# Altium footprint library resistors.PcbLib: 16 footprints
Each footprint in its own frame and in the unit in brackets; x right, y up, seen from the top. Pads: shape width x height; smd on the part's side, far side on the other; paste and mask are expansions set on the pad; w line width, h text height; cw(c..) or ccw(c..) is an arc to the next point about the centre after c.
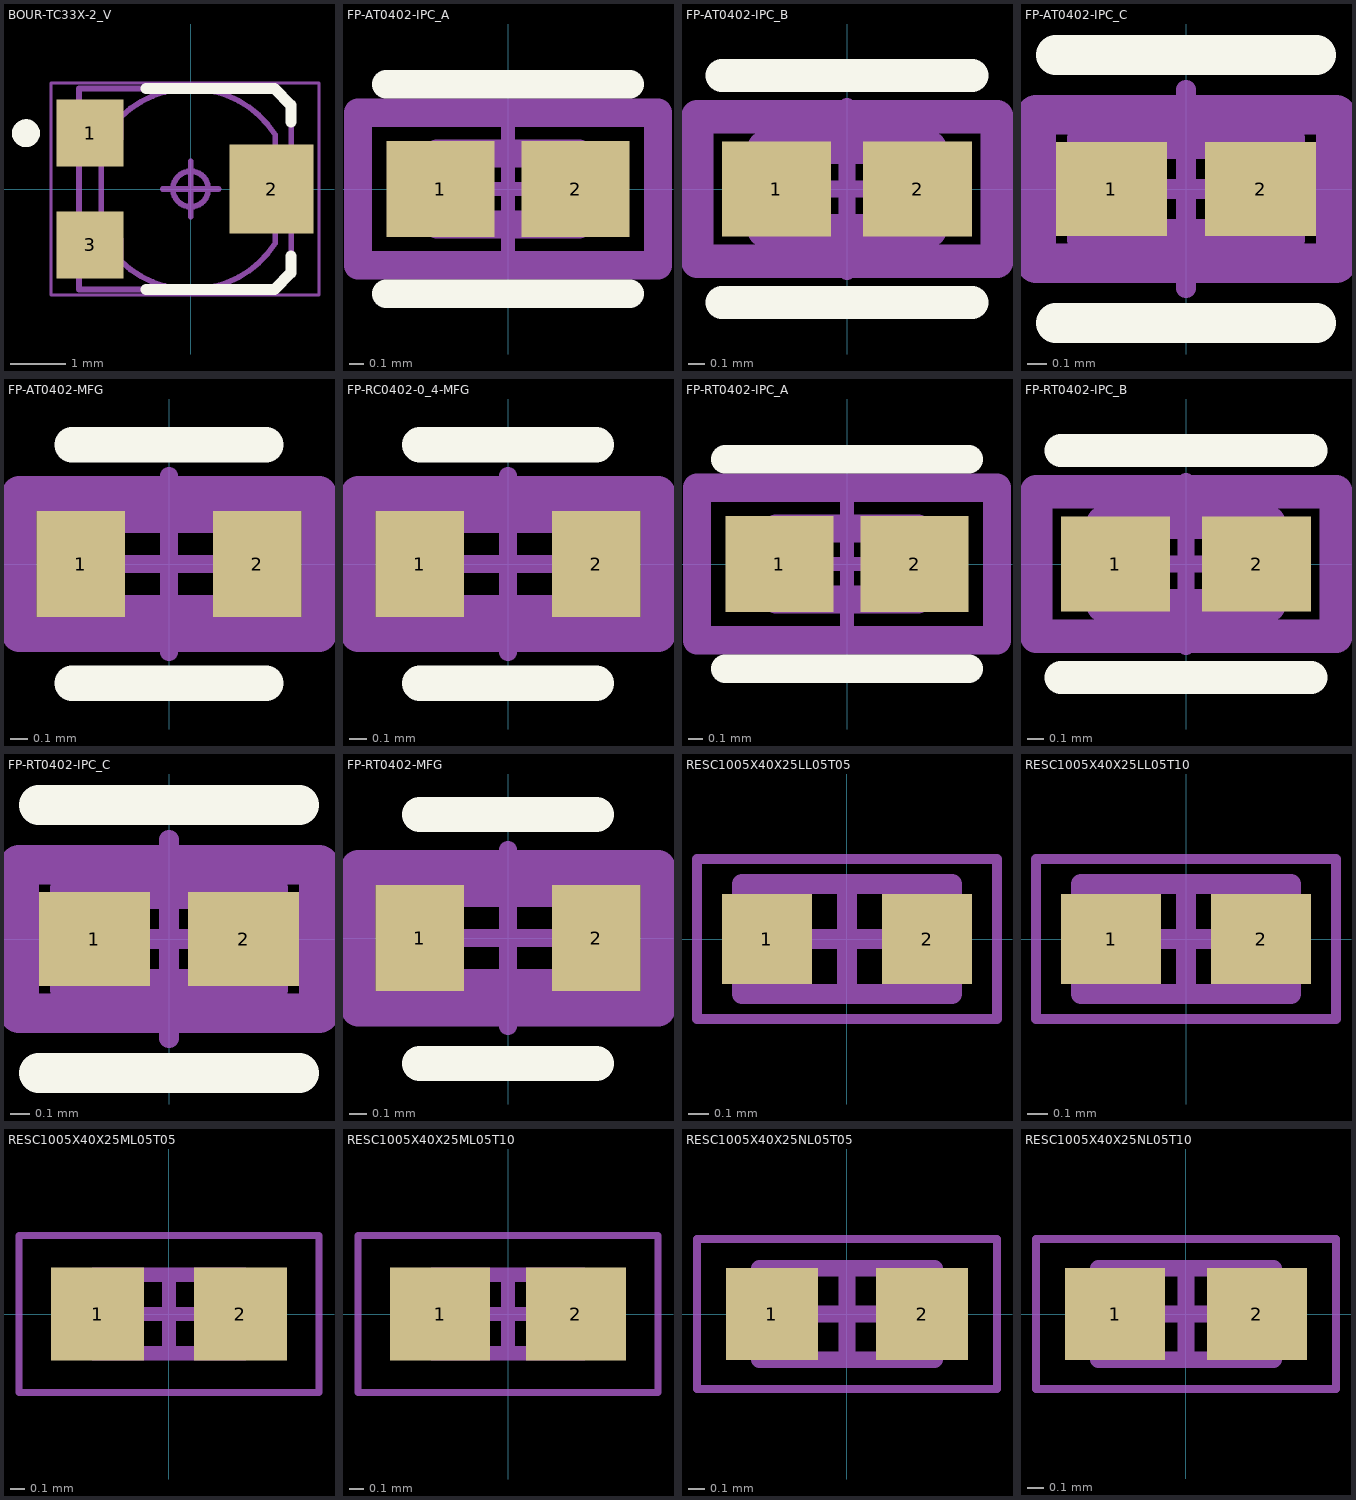
[diagram p0: the footprints below, top view; thin cyan lines are the x and y axes]

## BOUR-TC33X-2_V [mm] "SMD, 3-Leads, Body 3.8x3.6mm"
height 1.2
pads (3):
  rect 1.2x1.2 smd: 1(-1.8,1) 3(-1.8,-1)
  rect 1.5x1.6 smd: 2(1.45,0)
Top Overlay:
  circle w0.25: c-2.95,1 r0.125
  lines w0.2: -0.8,-1.8 1.5,-1.8 1.8,-1.5 1.8,-1.2 ; -0.8,1.8 1.5,1.8 1.8,1.5 1.8,1.2
Top 3D Body:
  lines w0.1: 1.515,-0.73 1.95,-0.73 1.95,-0.425 1.8,-0.425 ; 1.515,0.73 1.95,0.73 1.95,0.425 1.8,0.425 ; 1.8,-0.75 1.8,-1.5 1.5,-1.8 -2,-1.8 -2,1.8 1.5,1.8 1.8,1.5 1.8,0.75 ; 1.8,-0.42 1.8,0.42 ; -1.6,-0.895 -1.6,0.895 -1.25,0.895 -1.25,1.295 cw(c0,0) 1.515,0.972 1.515,0.352 cw(c1.16,0) 1.515,-0.352 1.515,-0.972 cw(c0,0) -1.25,-1.295 -1.25,-0.895 -1.6,-0.895 ; 0,-0.318 ccw(c0,0) 0,0.317 ccw(c0,0) 0,-0.318
Top Courtyard:
  lines w0.05: -2.5,-1.9 -2.5,1.9 2.3,1.9 2.3,-1.9 -2.5,-1.9
  lines w0.1: -0.5,0 0.5,0 ; 0,-0.5 0,0.5
3D body "BOUR-TC33X-2.stp": height 1.15, standoff 0, extent -2,-1.8 1.963,1.8

## FP-AT0402-IPC_A [mm]
pads (2):
  rect 0.76x0.672 smd paste+0 mask+0: 1(-0.476,0) 2(0.476,0)
Top Overlay:
  lines w0.2: -0.856,-0.736 0.856,-0.736 ; -0.856,0.736 0.856,0.736
Top Assembly:
  lines w0.2: -1.056,-0.536 1.056,-0.536 1.056,0.536 -1.056,0.536 -1.056,-0.536
Top 3D Body:
  lines w0.2: -0.5,-0.25 0.5,-0.25 0.5,0.25 -0.5,0.25 -0.5,-0.25
Top Courtyard:
  lines w0.2: -1.056,-0.536 1.056,-0.536 1.056,0.536 -1.056,0.536 -1.056,-0.536
Top Component Center:
  lines w0.1: -0.5,0 0.5,0 ; 0,-0.5 0,0.5
3D body "Res_Yageo_AT0402BRB07100RL_eec.STEP": height 0.25, standoff 0, extent -1.056,-0.536 1.056,0.536

## FP-AT0402-IPC_B [mm]
pads (2):
  rect 0.66x0.572 smd paste+0 mask+0: 1(-0.426,0) 2(0.426,0)
Top Overlay:
  lines w0.2: -0.756,-0.686 0.756,-0.686 ; -0.756,0.686 0.756,0.686
Top Assembly:
  lines w0.2: -0.906,-0.436 -0.906,0.436 0.906,0.436 0.906,-0.436 -0.906,-0.436
Top 3D Body:
  lines w0.2: -0.5,-0.25 -0.5,0.25 0.5,0.25 0.5,-0.25 -0.5,-0.25
Top Courtyard:
  lines w0.2: -0.906,-0.436 -0.906,0.436 0.906,0.436 0.906,-0.436 -0.906,-0.436
Top Component Center:
  lines w0.1: -0.5,0 0.5,0 ; 0,-0.5 0,0.5
3D body "Res_Yageo_AT0402BRB07100RL_eec.STEP": height 0.25, standoff 0, extent -0.906,-0.436 0.906,0.436

## FP-AT0402-IPC_C [mm]
pads (2):
  rect 0.56x0.472 smd paste+0 mask+0: 1(-0.376,0) 2(0.376,0)
Top Overlay:
  lines w0.2: -0.656,-0.675 0.656,-0.675 ; -0.656,0.675 0.656,0.675
Top Assembly:
  lines w0.2: -0.756,-0.375 -0.756,0.375 0.756,0.375 0.756,-0.375 -0.756,-0.375
Top 3D Body:
  lines w0.2: -0.5,-0.25 -0.5,0.25 0.5,0.25 0.5,-0.25 -0.5,-0.25
Top Courtyard:
  lines w0.2: -0.756,-0.375 -0.756,0.375 0.756,0.375 0.756,-0.375 -0.756,-0.375
Top Component Center:
  lines w0.1: -0.5,0 0.5,0 ; 0,-0.5 0,0.5
3D body "Res_Yageo_AT0402BRB07100RL_eec.STEP": height 0.25, standoff 0, extent -0.756,-0.375 0.756,0.375

## FP-AT0402-MFG [mm]
pads (2):
  rect 0.5x0.6 smd paste+0 mask+0: 1(-0.5,0) 2(0.5,0)
Top Overlay:
  lines w0.2: -0.55,-0.675 0.55,-0.675 ; -0.55,0.675 0.55,0.675
Top Assembly:
  lines w0.2: -0.85,-0.4 -0.85,0.4 0.85,0.4 0.85,-0.4 -0.85,-0.4
Top 3D Body:
  lines w0.2: -0.55,-0.275 -0.55,0.275 0.55,0.275 0.55,-0.275 -0.55,-0.275
Top Courtyard:
  lines w0.2: -0.85,-0.4 -0.85,0.4 0.85,0.4 0.85,-0.4 -0.85,-0.4
Top Component Center:
  lines w0.1: -0.5,0 0.5,0 ; 0,-0.5 0,0.5
3D body "Res_Yageo_AT0402BRB07100RL_eec.STEP": height 0.25, standoff 0, extent -0.85,-0.4 0.85,0.4

## FP-RC0402-0_4-MFG [mm]
pads (2):
  rect 0.5x0.6 smd paste+0 mask+0: 1(-0.5,0) 2(0.5,0)
Top Overlay:
  lines w0.2: -0.5,-0.675 0.5,-0.675 ; -0.5,0.675 0.5,0.675
Top Assembly:
  lines w0.2: -0.85,-0.4 -0.85,0.4 0.85,0.4 0.85,-0.4 -0.85,-0.4
Top 3D Body:
  lines w0.2: -0.525,-0.275 -0.525,0.275 0.525,0.275 0.525,-0.275 -0.525,-0.275
Top Courtyard:
  lines w0.2: -0.85,-0.4 -0.85,0.4 0.85,0.4 0.85,-0.4 -0.85,-0.4
Top Component Center:
  lines w0.1: -0.5,0 0.5,0 ; 0,-0.5 0,0.5
3D body "Res_YAGEO_RC0402JR-071ML_eec.STEP": height 0.25, standoff 0, extent -0.85,-0.4 0.85,0.4

## FP-RT0402-IPC_A [mm]
pads (2):
  rect 0.76x0.672 smd paste+0 mask+0: 1(-0.476,0) 2(0.476,0)
Top Overlay:
  lines w0.2: -0.856,-0.736 0.856,-0.736 ; -0.856,0.736 0.856,0.736
Top Assembly:
  lines w0.2: -1.056,-0.536 -1.056,0.536 1.056,0.536 1.056,-0.536 -1.056,-0.536
  text ".Designator" at 0,0.188 h1
Top 3D Body:
  lines w0.2: -0.5,-0.25 -0.5,0.25 0.5,0.25 0.5,-0.25 -0.5,-0.25
Top Courtyard:
  lines w0.2: -1.056,-0.536 -1.056,0.536 1.056,0.536 1.056,-0.536 -1.056,-0.536
Top Component Center:
  lines w0.1: -0.5,0 0.5,0 ; 0,-0.5 0,0.5
3D body "Res_Yageo_RT0402BRE07118KL_eec.STEP": height 0.25, standoff 0, extent -1.056,-0.536 1.056,0.536

## FP-RT0402-IPC_B [mm]
pads (2):
  rect 0.66x0.572 smd paste+0 mask+0: 1(-0.426,0) 2(0.426,0)
Top Overlay:
  lines w0.2: -0.756,-0.686 0.756,-0.686 ; -0.756,0.686 0.756,0.686
Top Assembly:
  lines w0.2: -0.906,-0.436 0.906,-0.436 0.906,0.436 -0.906,0.436 -0.906,-0.436
  text ".Designator" at 0,0.188 h1
Top 3D Body:
  lines w0.2: -0.5,-0.25 0.5,-0.25 0.5,0.25 -0.5,0.25 -0.5,-0.25
Top Courtyard:
  lines w0.2: -0.906,-0.436 0.906,-0.436 0.906,0.436 -0.906,0.436 -0.906,-0.436
Top Component Center:
  lines w0.1: -0.5,0 0.5,0 ; 0,-0.5 0,0.5
3D body "Res_Yageo_RT0402BRE07118KL_eec.STEP": height 0.25, standoff 0, extent -0.906,-0.436 0.906,0.436

## FP-RT0402-IPC_C [mm]
pads (2):
  rect 0.56x0.472 smd paste+0 mask+0: 1(-0.376,0) 2(0.376,0)
Top Overlay:
  lines w0.2: -0.656,-0.675 0.656,-0.675 ; -0.656,0.675 0.656,0.675
Top Assembly:
  lines w0.2: -0.756,-0.375 0.756,-0.375 0.756,0.375 -0.756,0.375 -0.756,-0.375
Top 3D Body:
  lines w0.2: -0.5,-0.25 0.5,-0.25 0.5,0.25 -0.5,0.25 -0.5,-0.25
Top Courtyard:
  lines w0.2: -0.756,-0.375 0.756,-0.375 0.756,0.375 -0.756,0.375 -0.756,-0.375
Top Component Center:
  lines w0.1: -0.5,0 0.5,0 ; 0,-0.5 0,0.5
3D body "Res_Yageo_RT0402BRE07118KL_eec.STEP": height 0.25, standoff 0, extent -0.756,-0.375 0.756,0.375

## FP-RT0402-MFG [mm]
pads (2):
  rect 0.5x0.6 smd paste+0 mask+0: 1(-0.5,0) 2(0.5,0)
Top Overlay:
  lines w0.2: -0.5,-0.711 0.5,-0.711 ; -0.5,0.7 0.5,0.7
Top Assembly:
  lines w0.2: -0.85,-0.4 -0.85,0.4 0.85,0.4 0.85,-0.4 -0.85,-0.4
  text ".Designator" at 0,0.188 h1
Top 3D Body:
  lines w0.2: -0.55,-0.275 -0.55,0.275 0.55,0.275 0.55,-0.275 -0.55,-0.275
Top Courtyard:
  lines w0.2: -0.85,-0.4 -0.85,0.4 0.85,0.4 0.85,-0.4 -0.85,-0.4
Top Component Center:
  lines w0.1: -0.5,0 0.5,0 ; 0,-0.5 0,0.5
3D body "Res_Yageo_RT0402BRE07118KL_eec.STEP": height 0.25, standoff 0, extent -0.85,-0.4 0.85,0.4

## RESC1005X40X25LL05T05 [mm] "Chip Resistor, 2-Leads, Body 1.00x0.50mm, IPC High Density"
height 0.4
pads (2):
  rect 0.45x0.45 smd: 1(-0.4,0) 2(0.4,0)
Top 3D Body:
  lines w0.1: -0.525,-0.275 -0.525,0.275 0.525,0.275 0.525,-0.275 -0.525,-0.275
Top Courtyard:
  lines w0.05: -0.75,-0.4 -0.75,0.4 0.75,0.4 0.75,-0.4 -0.75,-0.4
  lines w0.1: -0.275,0 0.275,0 ; 0,-0.275 0,0.275
3D body: height 0.4, standoff 0, extent -0.275,-0.275 0.275,0.275
3D body: height 0.4, standoff 0, extent -0.525,-0.275 -0.275,0.275
3D body: height 0.4, standoff 0, extent 0.275,-0.275 0.525,0.275

## RESC1005X40X25LL05T10 [mm] "Chip Resistor, 2-Leads, Body 1.00x0.50mm, IPC High Density"
height 0.4
pads (2):
  rect 0.5x0.45 smd: 1(-0.375,0) 2(0.375,0)
Top 3D Body:
  lines w0.1: -0.525,-0.275 -0.525,0.275 0.525,0.275 0.525,-0.275 -0.525,-0.275
Top Courtyard:
  lines w0.05: -0.75,-0.4 -0.75,0.4 0.75,0.4 0.75,-0.4 -0.75,-0.4
  lines w0.1: -0.275,0 0.275,0 ; 0,-0.275 0,0.275
3D body: height 0.4, standoff 0, extent -0.275,-0.275 0.275,0.275
3D body: height 0.4, standoff 0, extent -0.525,-0.275 -0.275,0.275
3D body: height 0.4, standoff 0, extent 0.275,-0.275 0.525,0.275

## RESC1005X40X25ML05T05 [mm] "Chip Resistor, 2-Leads, Body 1.00x0.50mm, IPC Low Density"
height 0.4
pads (2):
  rect 0.65x0.65 smd: 1(-0.5,0) 2(0.5,0)
Top 3D Body:
  lines w0.1: -0.525,-0.275 -0.525,0.275 0.525,0.275 0.525,-0.275 -0.525,-0.275
Top Courtyard:
  lines w0.05: -1.05,-0.55 -1.05,0.55 1.05,0.55 1.05,-0.55 -1.05,-0.55
  lines w0.1: -0.275,0 0.275,0 ; 0,-0.275 0,0.275
3D body: height 0.4, standoff 0, extent -0.275,-0.275 0.275,0.275
3D body: height 0.4, standoff 0, extent -0.525,-0.275 -0.275,0.275
3D body: height 0.4, standoff 0, extent 0.275,-0.275 0.525,0.275

## RESC1005X40X25ML05T10 [mm] "Chip Resistor, 2-Leads, Body 1.00x0.50mm, IPC Low Density"
height 0.4
pads (2):
  rect 0.7x0.65 smd: 1(-0.475,0) 2(0.475,0)
Top 3D Body:
  lines w0.1: -0.525,-0.275 0.525,-0.275 0.525,0.275 -0.525,0.275 -0.525,-0.275
Top Courtyard:
  lines w0.05: -1.05,-0.55 1.05,-0.55 1.05,0.55 -1.05,0.55 -1.05,-0.55
  lines w0.1: -0.275,0 0.275,0 ; 0,-0.275 0,0.275
3D body: height 0.4, standoff 0, extent 0.275,-0.275 0.525,0.275
3D body: height 0.4, standoff 0, extent -0.525,-0.275 -0.275,0.275
3D body: height 0.4, standoff 0, extent -0.275,-0.275 0.275,0.275

## RESC1005X40X25NL05T05 [mm] "Chip Resistor, 2-Leads, Body 1.00x0.50mm, IPC Medium Density"
height 0.4
pads (2):
  rect 0.55x0.55 smd: 1(-0.45,0) 2(0.45,0)
Top 3D Body:
  lines w0.1: -0.525,-0.275 -0.525,0.275 0.525,0.275 0.525,-0.275 -0.525,-0.275
Top Courtyard:
  lines w0.05: -0.9,-0.45 -0.9,0.45 0.9,0.45 0.9,-0.45 -0.9,-0.45
  lines w0.1: -0.275,0 0.275,0 ; 0,-0.275 0,0.275
3D body: height 0.4, standoff 0, extent -0.275,-0.275 0.275,0.275
3D body: height 0.4, standoff 0, extent -0.525,-0.275 -0.275,0.275
3D body: height 0.4, standoff 0, extent 0.275,-0.275 0.525,0.275

## RESC1005X40X25NL05T10 [mm] "Chip Resistor, 2-Leads, Body 1.00x0.50mm, IPC Medium Density"
height 0.4
pads (2):
  rect 0.6x0.55 smd: 1(-0.425,0) 2(0.425,0)
Top 3D Body:
  lines w0.1: -0.525,-0.275 -0.525,0.275 0.525,0.275 0.525,-0.275 -0.525,-0.275
Top Courtyard:
  lines w0.05: -0.9,-0.45 -0.9,0.45 0.9,0.45 0.9,-0.45 -0.9,-0.45
  lines w0.1: -0.275,0 0.275,0 ; 0,-0.275 0,0.275
3D body: height 0.4, standoff 0, extent -0.275,-0.275 0.275,0.275
3D body: height 0.4, standoff 0, extent -0.525,-0.275 -0.275,0.275
3D body: height 0.4, standoff 0, extent 0.275,-0.275 0.525,0.275